# Altium footprint library 100ASK_STM32F103_MINI.PcbLib: 20 footprints (part 1 of 2)
Each footprint in its own frame and in the unit in brackets; x right, y up, seen from the top. Pads: shape width x height; smd on the part's side, far side on the other; paste and mask are expansions set on the pad; w line width, h text height; cw(c..) or ccw(c..) is an arc to the next point about the centre after c.
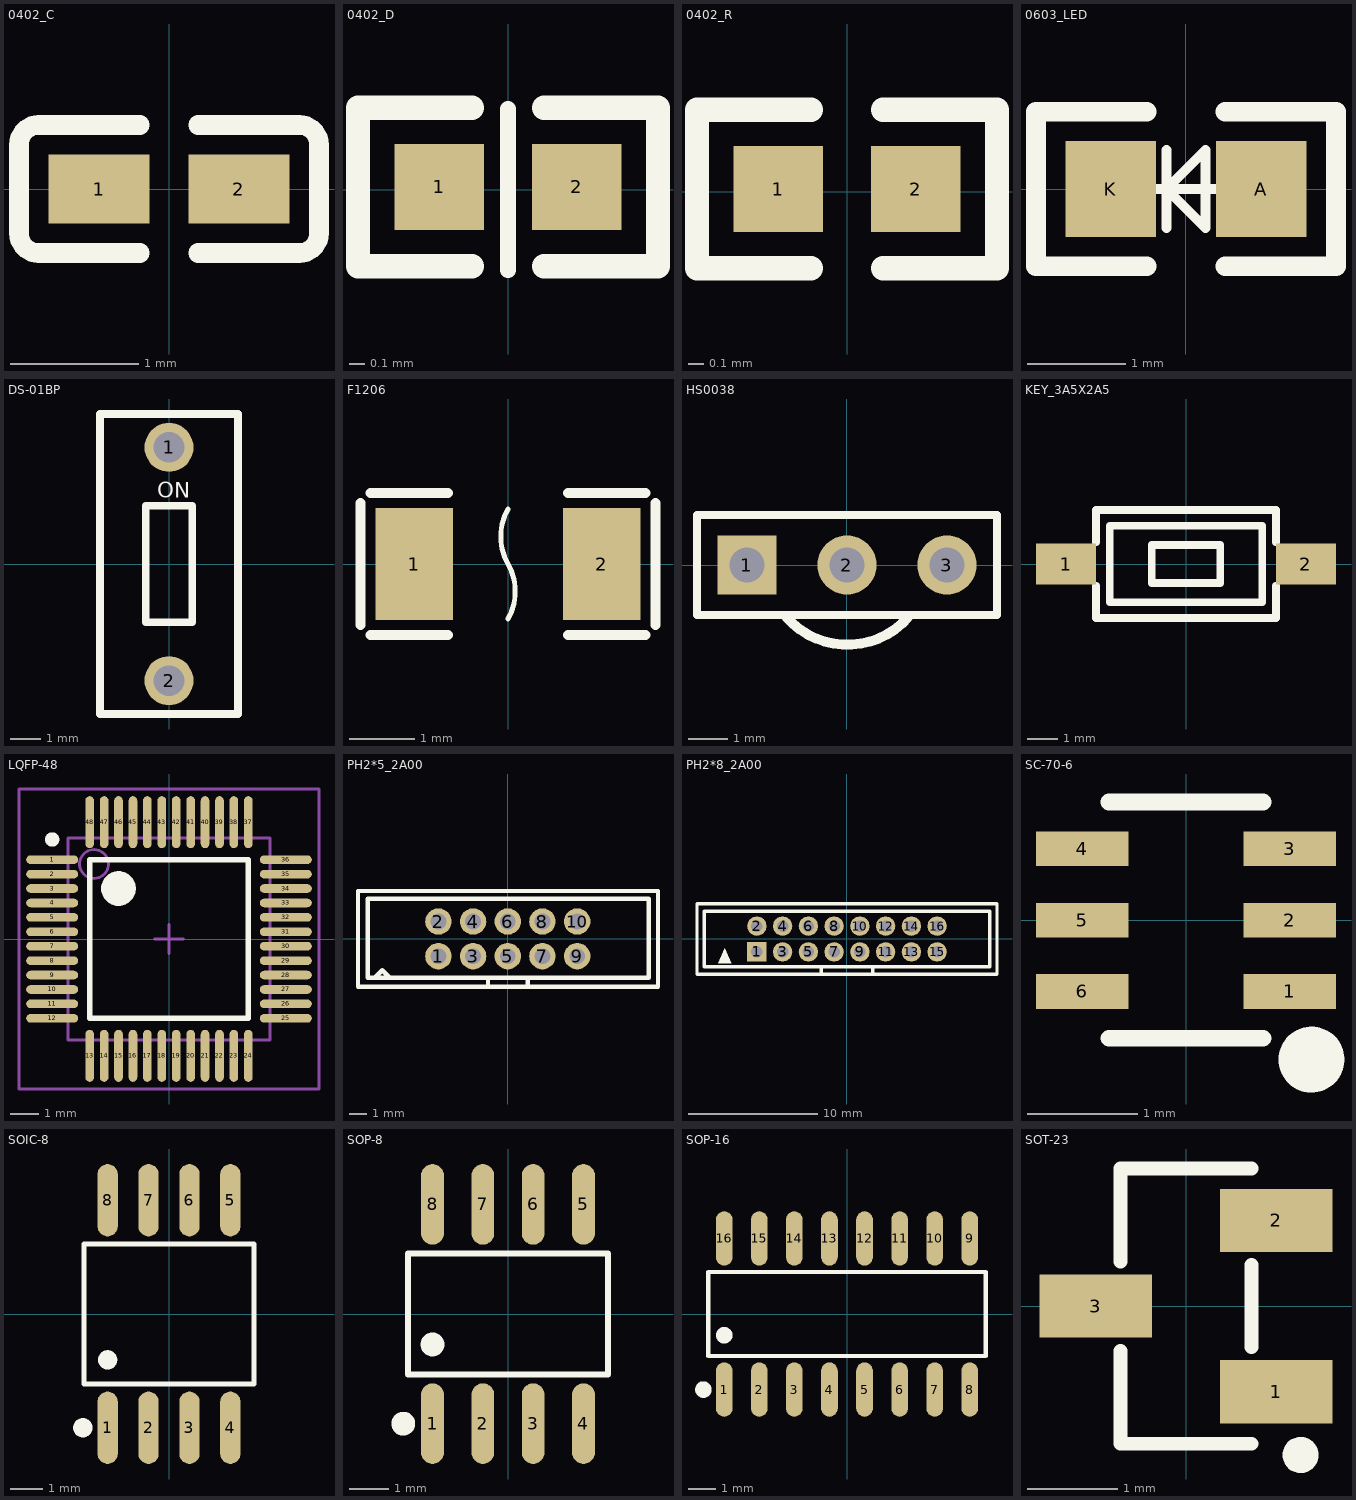
[diagram p0: the footprints below, top view; thin cyan lines are the x and y axes]

## 0402_C [mm]
pads (2):
  rect 0.79x0.54 smd: 1(-0.545,0) 2(0.545,0)
Top Overlay:
  lines w0.152: -0.226,-0.499 -1.016,-0.499 cw(c-1.016,-0.346) -1.169,-0.346 -1.169,0.346 cw(c-1.016,0.346) -1.016,0.499 -0.226,0.499 ; 0.226,-0.499 1.016,-0.499 ccw(c1.016,-0.346) 1.169,-0.346 1.169,0.346 ccw(c1.016,0.346) 1.016,0.499 0.226,0.499

## 0402_D [mm]
pads (2):
  rect 0.566x0.54 smd: 1(-0.433,0.016) 2(0.433,0.016)
Top Overlay:
  lines w0.1: 0,-0.508 0,0.508
  lines w0.152: -0.226,-0.483 -0.944,-0.483 -0.944,0.515 -0.226,0.515 ; 0.226,-0.483 0.944,-0.483 0.944,0.515 0.226,0.515

## 0402_R [mm]
pads (2):
  rect 0.566x0.54 smd: 1(-0.433,0.016) 2(0.433,0.016)
Top Overlay:
  lines w0.152: -0.226,-0.483 -0.944,-0.483 -0.944,0.515 -0.226,0.515 ; 0.226,-0.483 0.944,-0.483 0.944,0.515 0.226,0.515

## 0603_LED [mm]
pads (2):
  rect 0.93x0.98 smd: A(0.77,0) K(-0.77,0)
Top Overlay:
  lines w0.1: -0.4,0 0.4,0 ; -0.2,-0.4 -0.2,0.4 ; -0.2,0 0.2,0.4 0.2,-0.4 -0.2,0
  lines w0.2: -0.4,-0.79 -1.535,-0.79 -1.535,0.79 -0.4,0.79 ; 0.4,-0.79 1.535,-0.79 1.535,0.79 0.4,0.79

## DS-01BP [mm]
pads (2):
  round 1.6 hole 1: 1(0,3.81) 2(0,-3.81)
Top Overlay:
  lines w0.254: -2.25,-4.9 -2.25,4.9 2.25,4.9 2.25,-4.9 -2.25,-4.9 ; -0.762,-1.905 -0.762,1.905 0.762,1.905 0.762,-1.905 -0.762,-1.905
  text "ON" at -0.381,2.159 h0.51

## F1206 [mm]
pads (2):
  rect 1.19x1.728 smd: 1(-1.445,0) 2(1.445,0)
Top Overlay:
  lines w0.076: 0,-0.845 ccw(c-0.732,-0.422) 0,0 cw(c0.732,0.422) 0,0.845
  lines w0.152: -2.269,-0.94 -2.269,0.94 ; -2.116,-1.093 -0.926,-1.093 ; -2.116,1.093 -0.926,1.093 ; 0.926,-1.093 2.116,-1.093 ; 0.926,1.093 2.116,1.093 ; 2.269,-0.94 2.269,0.94

## HS0038 [mm]
pads (3):
  rect 1.5x1.5 hole 0.9: 1(-2.54,0)
  round 1.5 hole 0.9: 2(0,0) 3(2.54,0)
Top Overlay:
  lines w0.2: -3.81,-1.27 -3.81,1.27 3.81,1.27 3.81,-1.27 -3.81,-1.27
  lines w0.254: -1.542,-1.318 ccw(c0.008,0.026) 1.552,-1.326

## KEY_3A5X2A5 [mm]
pads (2):
  rect 2x1.38 smd: 1(-4,0) 2(4,0)
Top Overlay:
  lines w0.254: -3,-0.731 -3,-1.8 3,-1.8 3,-0.731 ; -3,0.731 -3,1.8 3,1.8 3,0.731 ; -2.54,-1.27 2.54,-1.27 2.54,1.27 -2.54,1.27 -2.54,-1.27 ; -1.143,-0.635 1.143,-0.635 1.143,0.635 -1.143,0.635 -1.143,-0.635

## LQFP-48 [mm] "STM32F103C8T6"
height 4.32
pads (48):
  oval 1.8x0.3 smd: 1(-4.05,2.75) 2(-4.05,2.25) 3(-4.05,1.75) 4(-4.05,1.25) 5(-4.05,0.75) 6(-4.05,0.25) 7(-4.05,-0.25) 8(-4.05,-0.75) 9(-4.05,-1.25) 10(-4.05,-1.75) 11(-4.05,-2.25) 12(-4.05,-2.75) 25(4.05,-2.75) 26(4.05,-2.25) 27(4.05,-1.75) 28(4.05,-1.25) 29(4.05,-0.75) 30(4.05,-0.25) 31(4.05,0.25) 32(4.05,0.75) 33(4.05,1.25) 34(4.05,1.75) 35(4.05,2.25) 36(4.05,2.75)
  oval 0.3x1.8 smd: 13(-2.75,-4.05) 14(-2.25,-4.05) 15(-1.75,-4.05) 16(-1.25,-4.05) 17(-0.75,-4.05) 18(-0.25,-4.05) 19(0.25,-4.05) 20(0.75,-4.05) 21(1.25,-4.05) 22(1.75,-4.05) 23(2.25,-4.05) 24(2.75,-4.05) 37(2.75,4.05) 38(2.25,4.05) 39(1.75,4.05) 40(1.25,4.05) 41(0.75,4.05) 42(0.25,4.05) 43(-0.25,4.05) 44(-0.75,4.05) 45(-1.25,4.05) 46(-1.75,4.05) 47(-2.25,4.05) 48(-2.75,4.05)
Top Overlay:
  circle w0.6: c-1.75,1.75 r0.3
  circle w0.25: c-4.05,3.45 r0.125
  lines w0.2: -2.75,-2.75 2.75,-2.75 2.75,2.75 -2.75,2.75 -2.75,-2.75
Mechanical 13:
  circle w0.1: c-2.6,2.6 r0.5
  lines w0.1: -3.5,-3.5 3.5,-3.5 3.5,3.5 -3.5,3.5 -3.5,-3.5
Mechanical 15:
  lines w0.1: -0.5,0 0.5,0 ; 0,-0.5 0,0.5 ; -5.2,-5.2 5.2,-5.2 5.2,5.2 -5.2,5.2 -5.2,-5.2
3D body: height 1.6, standoff 0, extent -3.5,-3.5 3.5,3.5

## PH2*5_2A00 [mil]
pads (10):
  round 60 hole 36: 1(-157.55,-39.35) 2(-157.55,39.35) 3(-78.75,-39.35) 4(-78.75,39.35) 5(-0.05,-39.35) 6(-0.05,39.35) 7(78.65,-39.35) 8(78.65,39.35) 9(157.55,-39.35) 10(157.55,39.35)
Top Overlay:
  lines w10: -340.08,108.65 340.95,108.65 340.95,-107.89 ; -340.05,-108.35 340.98,-108.35 ; -340.05,-107.89 -340.05,108.65 ; -318.1,90.65 319.72,90.65 ; -318.05,-88.35 39.95,-88.35 ; -318.05,-87.35 -318.05,87.78 ; -301.05,-87.35 -285.05,-71.35 -268.05,-88.35 ; -45.05,-109.35 -45.05,-88.35 ; 37.95,-88.35 319.72,-88.35 ; 44.95,-108.35 44.95,-88.35 ; 319.95,-87.48 319.95,89.65

## PH2*8_2A00 [mm]
pads (16):
  rect 1.5x1.5 hole 0.9: 1(-7,-1)
  round 1.5 hole 0.9: 2(-7,1) 3(-5,-1) 4(-5,1) 5(-3,-1) 6(-3,1) 7(-1,-1) 8(-1,1) 9(1,-1) 10(1,1) 11(3,-1) 12(3,1) 13(5,-1) 14(5,1) 15(7,-1) 16(7,1)
Top Overlay:
  region: -10,-1.9 -9,-1.9 -9.5,-0.7
  lines w0.254: -2,-2.741 -2,-2.164 ; 2,-2.741 2,-2.164 ; -2,-2.164 -11.092,-2.164 -11.092,2.163 11.093,2.163 11.093,-2.164 2,-2.164 ; -2,-2.164 2,-2.164 ; -11.65,-2.741 11.65,-2.741 11.65,2.74 -11.65,2.74 -11.65,-2.741

## SC-70-6 [mm]
pads (6):
  rect 0.841x0.315 smd: 1(0.945,-0.65) 2(0.945,0) 3(0.945,0.65) 4(-0.945,0.65) 5(-0.945,0) 6(-0.945,-0.65)
Top Overlay:
  circle w0.3: c1.143,-1.27 r0.15
  lines w0.152: -0.701,-1.076 0.701,-1.076 ; -0.701,1.076 0.701,1.076

## SOIC-8 [mm]
pads (8):
  oval 0.63x2.25 smd: 1(-1.905,-3.53) 2(-0.635,-3.53) 3(0.635,-3.53) 4(1.905,-3.53) 5(1.905,3.53) 6(0.635,3.53) 7(-0.635,3.53) 8(-1.905,3.53)
Top Overlay:
  circle w0.3: c-1.905,-1.424 r0.15
  circle w0.3: c-2.672,-3.53 r0.15
  lines w0.152: -2.639,-2.176 -2.639,2.176 2.639,2.176 2.639,-2.176 -2.639,-2.176

## SOP-8 [mm]
pads (8):
  oval 0.574x2.036 smd: 1(-1.905,-2.768) 2(-0.635,-2.768) 3(0.635,-2.768) 4(1.905,-2.768) 5(1.905,2.768) 6(0.635,2.768) 7(-0.635,2.768) 8(-1.905,2.768)
Top Overlay:
  circle w0.3: c-1.905,-0.769 r0.15
  circle w0.3: c-2.644,-2.768 r0.15
  lines w0.152: -2.526,-1.521 -2.526,1.521 2.526,1.521 2.526,-1.521 -2.526,-1.521

## SOP-16 [mm]
pads (16):
  oval 0.602x1.971 smd: 1(-4.445,-2.736) 2(-3.175,-2.736) 3(-1.905,-2.736) 4(-0.635,-2.736) 5(0.635,-2.736) 6(1.905,-2.736) 7(3.175,-2.736) 8(4.445,-2.736) 9(4.445,2.736) 10(3.175,2.736) 11(1.905,2.736) 12(0.635,2.736) 13(-0.635,2.736) 14(-1.905,2.736) 15(-3.175,2.736) 16(-4.445,2.736)
Top Overlay:
  circle w0.3: c-5.198,-2.736 r0.15
  circle w0.3: c-4.445,-0.769 r0.15
  lines w0.152: -5.026,-1.521 5.026,-1.521 5.026,1.521 -5.026,1.521 -5.026,-1.521

## SOT-23 [mm]
pads (3):
  rect 1.25x0.7 smd: 1(1,-0.95) 2(1,0.95) 3(-1,0)
Top Overlay:
  circle w0.2: c1.27,-1.651 r0.1
  lines w0.152: -0.726,-0.495 -0.726,-1.526 0.726,-1.526 ; -0.726,0.495 -0.726,1.526 0.726,1.526 ; 0.726,-0.455 0.726,0.455